# Altium integrated library CrimpTerminalBrassMale_PCRS-250.IntLib: 1 symbol
Pins are listed as number, name and electrical type; pins without a type are passive.

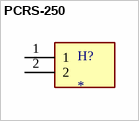
[diagram p0: symbol PCRS-250]

## PCRS-250
designator H?
PCRS250- Valcon PCB Mount Spade Terminal, 10.5mm PCB Profile; MP: PCRS-250; Value: *; Price: None; Package: None; Availability: Unavailable
footprint TERMINAL_PCRS-250
pins: 1, 2